# EAGLE library part PCA9629 (library SPCoast)
I2C Stepper Motor Controller
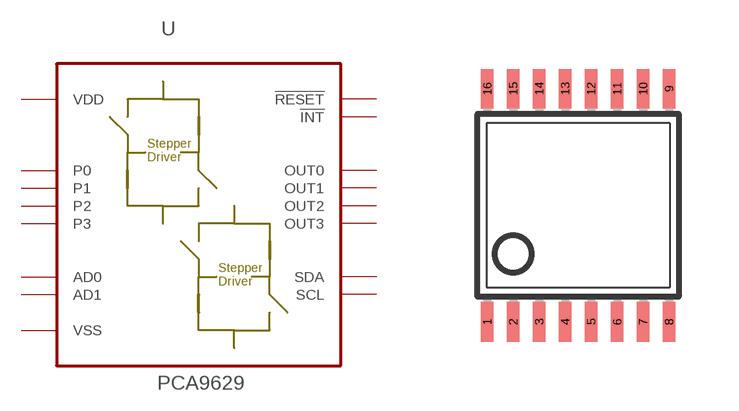
[diagram p54: symbol with the pads of TSSOP16; footprint TSSOP16]

Designator prefix -

## PCA9629  [TSSOP16]
1  P0
2  P1
3  P2
4  P3
5  AD0  in
6  AD1  in
7  !RESET  in
8  VSS  pwr
9  OUT3  out
10  OUT2  out
11  OUT1  out
12  OUT0  out
13  !INT  out
14  SCL  in
15  SDA
16  VDD  pwr

## Footprint TSSOP16 (pad centres in mm)
Thin Shrink Small Outline Plastic 16 MAX3223-MAX3243.pdf
smd 0.305 x 0.991: 1 -2.275,-2.918; 2 -1.625,-2.918; 3 -0.975,-2.918; 4 -0.325,-2.918; 5 0.325,-2.918; 6 0.975,-2.918; 7 1.625,-2.918; 8 2.275,-2.918; 9 2.275,2.918; 10 1.625,2.918; 11 0.975,2.918; 12 0.325,2.918; 13 -0.325,2.918; 14 -0.975,2.918; 15 -1.625,2.918; 16 -2.275,2.918